# EAGLE library part HMC5883L (library NSL_MiniQuad)
Honeywell HMC5883L 3-axis digital compass IC Successor to the HMC5843.
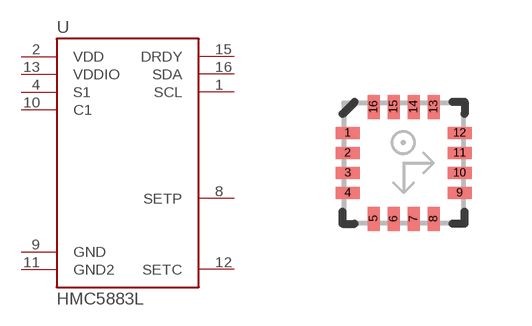
[diagram p0: symbol with the pads of LPCC16; footprint LPCC16]

Designator prefix -

## HMC5883L (DATASHEET: http://www.dsscircuits.com/images/datasheets/HMC5883L.pdf; LINK: http://parts.digikey.com/1/parts/2057013-ic-compass-3-axis-i2c-16lcc-smd-hmc5883l-tr.html; MFGPN: HMC5883L-TR)  [LPCC16]
1  SCL
2  VDD
4  S1
8  SETP
9  GND
10  C1
11  GND2
12  SETC
13  VDDIO
15  DRDY
16  SDA

## Footprint LPCC16 (pad centres in mm)
smd 0.6 x 0.3: 1 -1.4,0.75; 2 -1.4,0.25; 3 -1.4,-0.25; 4 -1.4,-0.75; 9 1.4,-0.75; 10 1.4,-0.25; 11 1.4,0.25; 12 1.4,0.75
smd 0.3 x 0.6: 5 -0.75,-1.4; 6 -0.25,-1.4; 7 0.25,-1.4; 8 0.75,-1.4; 13 0.75,1.4; 14 0.25,1.4; 15 -0.25,1.4; 16 -0.75,1.4